# EAGLE library part UDA1360TS (library micro-philips)
Stereo audio A/D CONVERTER
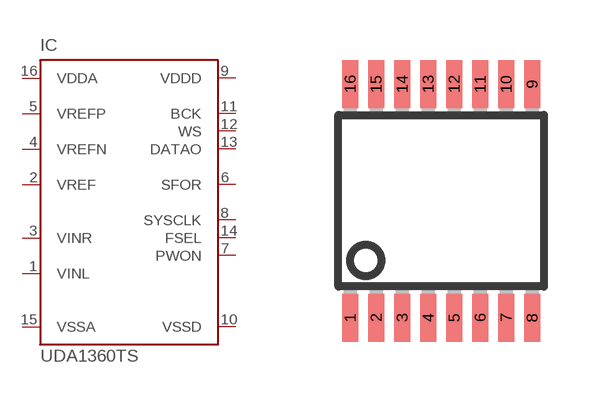
[diagram p22: symbol with the pads of SSOP16; footprint SSOP16]

Designator prefix IC

## UDA1360TS (OC_FARNELL: unknown; OC_NEWARK: unknown)  [SSOP16]
1  VINL  in
2  VREF  in
3  VINR  in
4  VREFN  in
5  VREFP  in
6  SFOR  in
7  PWON  in
8  SYSCLK  in
9  VDDD  pwr
10  VSSD  pwr
11  BCK  in
12  WS  in
13  DATAO  in
14  FSEL  in
15  VSSA  pwr
16  VDDA  pwr

## Footprint SSOP16 (pad centres in mm)
Small Shrink Outline Package
smd 0.4 x 1.2: 1 -2.275,-2.925; 2 -1.625,-2.925; 3 -0.975,-2.925; 4 -0.325,-2.925; 5 0.325,-2.925; 6 0.975,-2.925; 7 1.625,-2.925; 8 2.275,-2.925; 9 2.275,2.925; 10 1.625,2.925; 11 0.975,2.925; 12 0.325,2.925; 13 -0.325,2.925; 14 -0.975,2.925; 15 -1.625,2.925; 16 -2.275,2.925